# Altium footprint library Sangjian_Pcb.PcbLib: 434 footprints (part 1 of 28)
Each footprint in its own frame and in the unit in brackets; x right, y up, seen from the top. Pads: shape width x height; smd on the part's side, far side on the other; paste and mask are expansions set on the pad; w line width, h text height; cw(c..) or ccw(c..) is an arc to the next point about the centre after c.
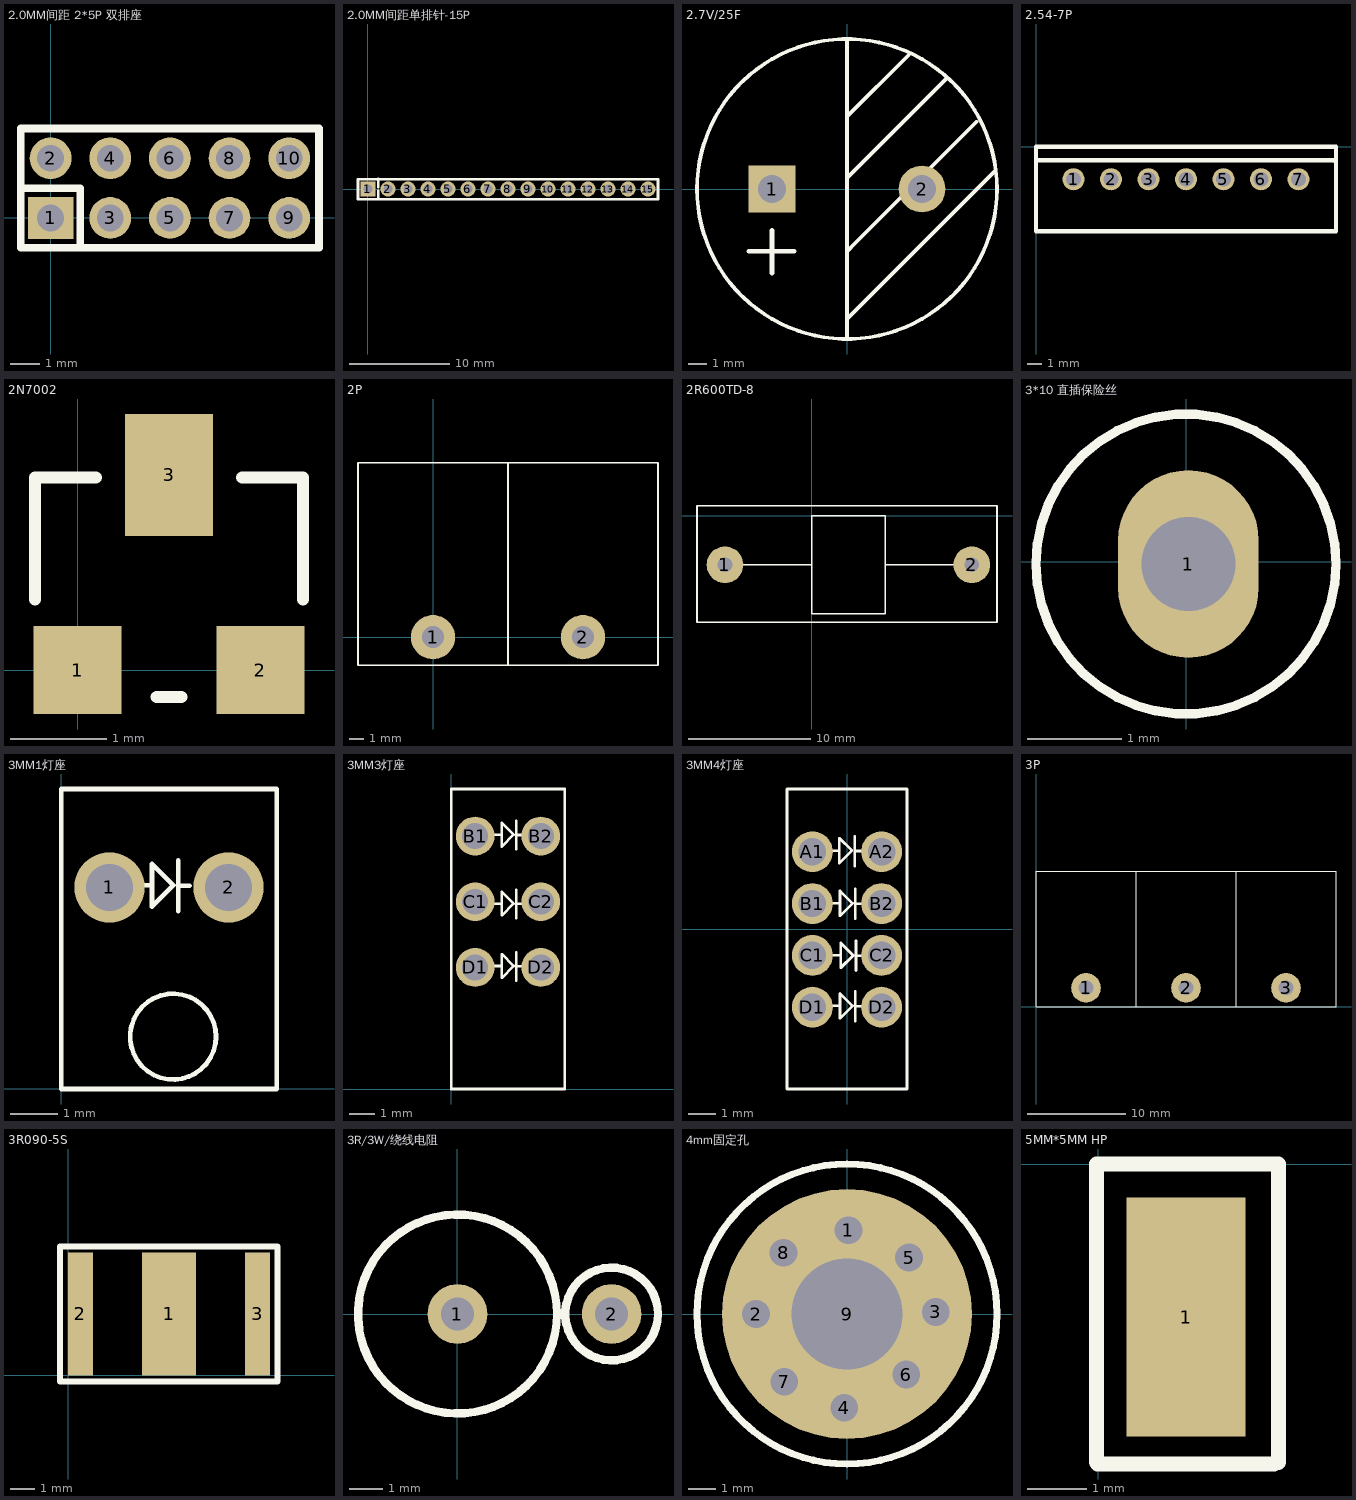
[diagram p0: the footprints below, top view; thin cyan lines are the x and y axes]

## 2.0MM间距 2*5P 双排座 [mm]
pads (10):
  rect 1.524x1.4 hole 0.9: 1(0,0)
  round 1.4 hole 0.9: 2(0,2) 3(2,0) 4(2,2) 5(4,0) 6(4,2) 7(6,0) 8(6,2) 9(8,0) 10(8,2)
Top Overlay:
  lines w0.254: -1,1 1,1 1,-1 ; -1,-1 9,-1 9,3 -1,3 -1,-1
Mechanical 15:
  region: -0.94,-1 -0.94,-0.975 -0.975,-0.94 -1.025,-0.94 -1.06,-0.975 -1.06,-1 -1.06,-1.025 -1.025,-1.06 -0.975,-1.06 -0.94,-1.025
  region: -0.25,0.25 0.25,0.25 0.25,-0.25 -0.25,-0.25
  region: -0.25,2.25 0.25,2.25 0.25,1.75 -0.25,1.75
  region: 1.75,0.25 2.25,0.25 2.25,-0.25 1.75,-0.25
  region: 1.75,2.25 2.25,2.25 2.25,1.75 1.75,1.75
  region: 3.75,0.25 4.25,0.25 4.25,-0.25 3.75,-0.25
  region: 3.75,2.25 4.25,2.25 4.25,1.75 3.75,1.75
  region: 5.75,0.25 6.25,0.25 6.25,-0.25 5.75,-0.25
  region: 5.75,2.25 6.25,2.25 6.25,1.75 5.75,1.75
  region: 7.75,0.25 8.25,0.25 8.25,-0.25 7.75,-0.25
  region: 7.75,2.25 8.25,2.25 8.25,1.75 7.75,1.75
  lines w0.051: -1,-1 -1,3 9,3 9,-1 -1,-1

## 2.0MM间距单排针-15P [mil]
pads (15):
  rect 60x60 hole 36 paste+0 mask+2: 1(0,0)
  round 60 hole 36 paste+0 mask+2: 2(78.74,0) 3(157.48,0) 4(236.22,0) 5(314.96,0) 6(393.7,0) 7(472.44,0) 8(551.18,0) 9(629.92,0) 10(708.66,0) 11(787.4,0) 12(866.14,0) 13(944.88,0) 14(1023.62,0) 15(1102.36,0)
Top Overlay:
  lines w10: 40.43,-35 40.43,-7.4 ; 40.43,7.4 40.43,40 ; -39.37,-39.37 -39.37,39.37 1141.73,39.37 1141.73,-39.37 -39.37,-39.37
Mechanical 15:
  drawing of 15 lines, arcs and shapes, not listed

## 2.7V/25F [mm]
pads (2):
  rect 2.5x2.5 hole 1.5: 1(-4,0)
  round 2.5 hole 1.5: 2(4,0)
Top Overlay:
  circle w0.2: c0,0 r8
  lines w0.2: 0,-8 0,8 ; 0,0.584 5.334,5.918 ; 0,3.861 3.277,7.137 ; 0.025,-3.302 0.432,-2.896 6.909,3.581 ; 0.051,-6.883 7.899,0.965
  lines w0.25: -5.232,-3.327 -2.819,-3.327 ; -4,-4.496 -4,-2.21

## 2.54-7P [mm]
pads (7):
  round 1.5 hole 1: 1(2.54,-2.2) 2(5.08,-2.2) 3(7.62,-2.2) 4(10.16,-2.2) 5(12.7,-2.2) 6(15.24,-2.2) 7(17.78,-2.2)
Top Overlay:
  lines w0.3: 0,-0.914 20.193,-0.914 20.269,-0.991 ; 0,-5.72 0,0 20.32,0 20.32,-5.72 0,-5.72

## 2N7002 [mil]
pads (3):
  rect 36x36 smd: 1(0,0) 2(75,0)
  rect 36x50 smd: 3(37.5,80)
Top Overlay:
  lines w5: -17.5,29 -17.5,79 7.5,79 ; 32.5,-11 42.5,-11 ; 67.5,79 92.5,79 92.5,29

## 2P [mm]
pads (2):
  round 3 hole 1.5: 1(0,0) 2(10.16,0)
Top Overlay:
  lines w0.127: 5.08,-1.905 5.08,11.815 ; -5.08,-1.905 -5.08,11.815 15.236,11.815 15.24,11.811 15.24,-1.905 -5.08,-1.905

## 2R600TD-8 [mm]
pads (2):
  round 3 hole 1.2: 1(-7.087,-4) 2(13.081,-4)
Top Overlay:
  lines w0.127: -9.373,-8.687 -9.373,0.813 ; -9.347,-8.712 15.138,-8.712 15.138,0.838 -7.087,0.838 -9.347,0.838 -9.373,0.813 ; -9.347,0.787 -9.373,0.813 ; -6,-4 0,-4 ; 6,-4 12,-4 ; 0,-8 6,-8 6,0 0,0 0,-8

## 3*10 直插保险丝 [mm] "（竖立封装）"
pads (1):
  oval 1.5x2 hole 1: 1(0.025,-0.025)
Top Overlay:
  circle w0.1: c0,-0.025 r1.6

## 3MM1灯座 [mm]
pads (2):
  round 1.5 hole 1: 1(1.03,4.3) 2(3.57,4.3)
Top Overlay:
  circle w0.1: c2.388,1.118 r0.916
  lines w0.1: 1.657,4.349 1.937,4.349 ; 2.496,3.79 2.496,4.882 ; 2.496,4.336 2.737,4.336 ; 0,0 4.6,0 4.6,6.4 0,6.4 0,0 ; 1.937,3.892 1.937,4.806 2.394,4.349 1.937,3.892

## 3MM3灯座 [mm]
pads (6):
  round 1.5 hole 1: B1(0.93,9.78) B2(3.47,9.78) C1(0.93,7.24) C2(3.47,7.24) D1(0.93,4.7) D2(3.47,4.7)
Top Overlay:
  lines w0.1: 1.683,4.755 1.962,4.755 ; 1.683,7.168 1.962,7.168 ; 1.683,9.835 1.962,9.835 ; 2.521,4.197 2.521,5.289 ; 2.521,4.743 2.762,4.743 ; 2.521,6.61 2.521,7.702 ; 2.521,7.156 2.762,7.156 ; 2.521,9.277 2.521,10.369 ; 2.521,9.823 2.762,9.823 ; 4.4,0 0,0 0,11.6 4.4,11.6 4.4,0.006 ; 1.962,4.298 1.962,5.213 2.419,4.755 1.962,4.298 ; 1.962,6.711 2.419,7.168 1.962,7.626 1.962,6.711 ; 1.962,9.378 1.962,10.293 2.419,9.835 1.962,9.378

## 3MM4灯座 [mm]
pads (8):
  round 1.5 hole 1: A1(-1.27,2.85) A2(1.27,2.85) B1(-1.27,0.95) B2(1.27,0.95) C1(-1.27,-0.95) C2(1.27,-0.95) D1(-1.27,-2.85) D2(1.27,-2.85)
Top Overlay:
  lines w0.1: -0.559,2.888 -0.279,2.888 ; -0.533,-2.802 -0.254,-2.802 ; -0.533,0.957 -0.254,0.957 ; -0.508,-0.948 -0.229,-0.948 ; 0.279,2.329 0.279,3.421 ; 0.279,2.875 0.521,2.875 ; 0.305,-3.361 0.305,-2.269 ; 0.305,-2.815 0.546,-2.815 ; 0.305,0.398 0.305,1.491 ; 0.305,0.945 0.546,0.945 ; 0.33,-1.507 0.33,-0.414 ; 0.33,-0.96 0.572,-0.96 ; -2.2,-5.85 2.2,-5.85 2.2,5.15 -2.2,5.15 -2.2,-5.85 ; -0.279,2.43 0.178,2.888 -0.279,3.345 -0.279,2.43 ; -0.254,-3.259 -0.254,-2.345 0.203,-2.802 -0.254,-3.259 ; -0.254,0.5 -0.254,1.414 0.203,0.957 -0.254,0.5 ; -0.229,-1.405 -0.229,-0.491 0.229,-0.948 -0.229,-1.405

## 3P [mm]
pads (3):
  round 3 hole 1.5: 1(5.08,1.905) 2(15.24,1.905) 3(25.4,1.905)
Top Overlay:
  lines w0.127: 10.16,0 10.16,13.72 ; 20.32,0 20.32,13.716 ; 0,0 30.48,0 30.48,13.72 0,13.72 0,0

## 3R090-5S [mm] "陶瓷气体放电管"
pads (3):
  rect 2.2x5 smd: 1(4.1,2.5)
  rect 1x5 smd: 2(0.5,2.5) 3(7.7,2.5)
Top Overlay:
  lines w0.254: -0.332,-0.257 -0.332,5.239 8.511,5.239 8.511,-0.257 -0.332,-0.257

## 3R/3W/绕线电阻 [mm]
pads (2):
  round 1.8 hole 1: 1(0,0) 2(4.648,0)
Top Overlay:
  circle w0.254: c0,0 r3
  circle w0.254: c4.648,0 r1.398

## 4mm固定孔 [mm]
pads (9):
  oval 1x2 hole 1: 1(0.051,3.023) 2(-3.277,0) 3(3.2,0.076) 4(-0.102,-3.378) 5(2.235,2.032) 6(2.134,-2.184) 7(-2.261,-2.438) 8(-2.286,2.21)
  round 9 hole 4: 9(0,0)
Top Overlay:
  circle w0.254: c0,0 r5.406

## 5MM*5MM HP [mm]
pads (1):
  rect 2x4 smd: 1(1.473,-2.565)
Top Overlay:
  lines w0.254: -0.025,-5 -0.025,0 ; -0.008,-5.029 2.946,-5.029 ; 0,0 3,0 ; 3.023,-5 3.023,0